# Altium schematic symbol library OF-SMD2835Y.SchLib: 1 symbol
Pins are listed as number, name and electrical type; pins without a type are passive.

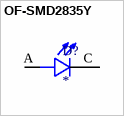
[diagram p0: symbol OF-SMD2835Y]

## OF-SMD2835Y
designator D?
LED; SMD; 2835, PLCC2; yellow; 2200-2800mcd; 2.8x3.5x0.75mm; 120Â°; MP: OF-SMD2835Y; Availability: Unavailable; Value: *; Package: None; Price: None
footprint LED_OF-SMD2835Y
pins: A, C